# Altium schematic symbol library ERJP06J471V.SchLib: 1 symbol
Pins are listed as number, name and electrical type; pins without a type are passive.

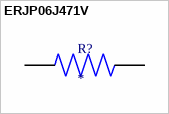
[diagram p0: symbol ERJP06J471V]

## ERJP06J471V
designator R?
MP: ERJP06J471V; Price: None; Value: *; Package: None; Availability: Unavailable
footprint RES_ERJP06J471V
pins: 1, 2